# Altium schematic symbol library Transformer.SchLib: 13 symbols
Pins are listed as number, name and electrical type; pins without a type are passive.

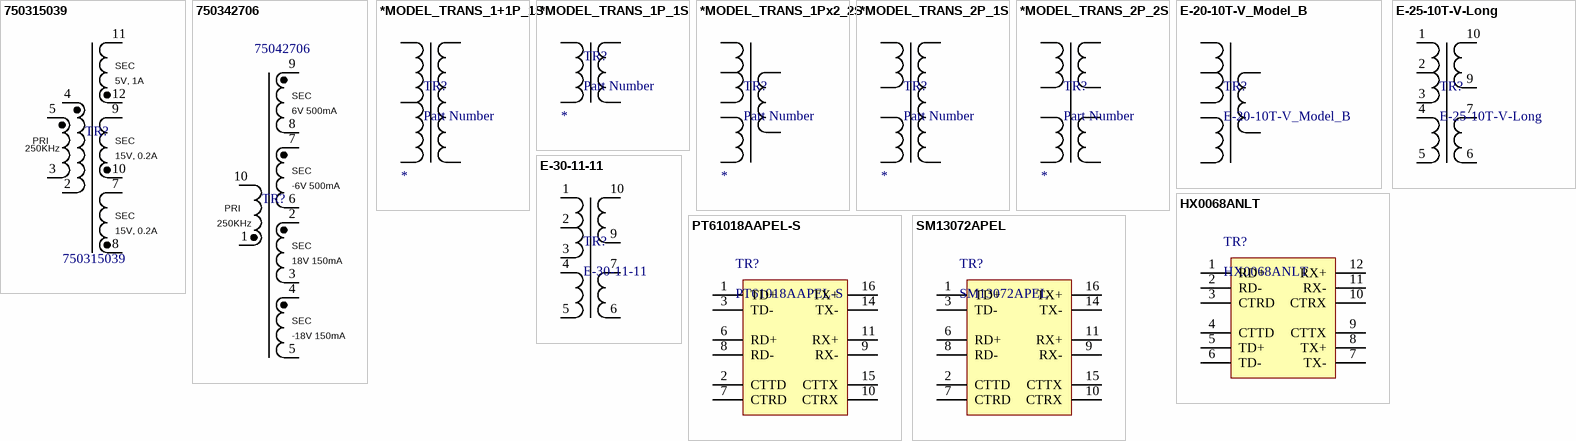
[diagram p0: symbols 750315039 to SM13072APEL]

## 750315039
designator TR?
XFRMR ISOL BUCK DC/DC CONV TH; Manufacturer: Wurth Electronics Midcom; Current: 1A; 0.2A; 0.2A; Mount Type: SMD; Supplier 1: Digi-Key; Supplier Part Number 1: 1297-1167-1-ND; Value: 750315039
footprint WURTH 750315039
pins: 2, 3, 4, 5, 7, 8, 9, 10, 11, 12
text: SEC; 5V, 1A; PRI; 250KHz; 15V, 0.2A

## 750342706
designator TR?  value 75042706  (hidden comment: 750342706)
XFRMR ISOL BUCK DC/DC CONV TH; Manufacturer: Wurth Electronics Midcom; Current: 150mA;150mA;500mA;500mA; Mount Type: SMD; Supplier 1: Xworks solutions; Supplier Part Number 1: 75042706; Supplier Unit Price 1: 5.98
footprint WURTH 750342706
pins: 1, 2, 3, 4, 5, 6, 7, 8, 9, 10
text: SEC; 6V 500mA; -6V 500mA; PRI; 250KHz; 18V 150mA; -18V 150mA

## *MODEL_TRANS_1+1P_1S
designator TR?, comment Part Number
Description; Current: xxA; Manufacturer: *; Mount Type: *; Value: *
pins: 1, 2, 3, 4, 5

## *MODEL_TRANS_1P_1S
designator TR?, comment Part Number
Description; Current: xxA; Manufacturer: *; Mount Type: *; Value: *
pins: 1, 2, 3, 4

## *MODEL_TRANS_1Px2_2S
designator TR?, comment Part Number
Description; Current: xxA; Manufacturer: *; Mount Type: *; Value: *
pins: 1, 2, 3, 4, 5, 6, 7

## *MODEL_TRANS_2P_1S
designator TR?, comment Part Number
Description; Current: xxA; Manufacturer: *; Mount Type: *; Value: *
pins: 1, 2, 3, 4, 5, 6

## *MODEL_TRANS_2P_2S
designator TR?, comment Part Number
Description; Current: xxA; Manufacturer: *; Mount Type: *; Value: *
pins: 1, 2, 3, 4, 5, 6, 7, 8

## E-20-10T-V_Model_B
designator TR?
TRANS_5.1V_2.1A_FSQ0365; Manufacturer: *; Mount Type: PTH
pins: 1, 2, 3, 4, 5, 6, 7

## E-25-10T-V-Long
designator TR?
TRANS_5.1V_2.1A_12V_250mA_FSQ0365; Inductance Primary: 964uH; Voltage Secundary 1: 5,1V; Voltage Secundary 2: 12V; Current Secondary 1: 2,1A; Current Secondary 2: 0,25A; Manufacturer: *; Mount Type: PTH; Quantity Pins: 10
footprint E-25-10T-V-Long
pins: 1, 2, 3, 4, 5, 6, 7, 9, 10

## E-30-11-11
designator TR?
TRANS_5.1V_2.1A_12V_250mA_FSQ0365; Inductance Primary: 964uH; Voltage Secundary 1: 5,1V; Voltage Secundary 2: 12V; Current Secondary 1: 2,1A; Current Secondary 2: 0,25A; Manufacturer: *; Mount Type: PTH; Quantity Pins: 10
footprint E-30-11-11
pins: 1, 2, 3, 4, 5, 6, 7, 9, 10

## HX0068ANLT
designator TR?
MODULE 1:1 100D SIN SMD; Manufacturer: Pulse Electronics Network; Value: LAN 10/100 Base-T; Mount Type: SMD; Supplier 1: Digi-Key; Supplier Part Number 1: 553-2066-1-ND; Supplier 2: Arrow; Supplier Part Number 2: ur33OIQ-xphno4v5aIvErsfLp2PWBfkLeTBHqjZoWCU; Supplier 3: Avnet; Supplier Part Number 3: HX0068ANLT
footprint LAN 10/100 TRAFO LOW PROFILE
pins: 1 RD+, 2 RD-, 3 CTRD, 4 CTTD, 5 TD+, 6 TD-, 7 TX-, 8 TX+, 9 CTTX, 10 CTRX, 11 RX-, 12 RX+

## PT61018AAPEL-S
designator TR?
PULSE XFMR 1CT:1CT 350UH SMD; Manufacturer: Bourns Inc.; Value: LAN 10/100 Base-T; Mount Type: SMD; Supplier 1: Newark; Supplier Part Number 1: 14AC4885; Supplier 2: Arrow; Supplier Part Number 2: tcXMXRLiuboHc4_Zr3oclBiNo-pBpldZYcswC1_xAEc; Supplier 3: Farnell; Supplier Part Number 3: 2725294; Supplier 4: Digi-Key; Supplier Part Number 4: PT61018AAPEL-SCT-ND
footprint LAN 10/100 TRAFO
pins: 1 TD+, 2 CTTD, 3 TD-, 6 RD+, 7 CTRD, 8 RD-, 9 RX-, 10 CTRX, 11 RX+, 14 TX-, 15 CTTX, 16 TX+

## SM13072APEL
designator TR?
LAN 10/100 BASE T XFORMER AECQ +; Manufacturer: Bourns Inc.; Value: LAN 10/100 Base-T; Mount Type: SMD; Supplier 1: Arrow; Supplier Part Number 1: aJ5ByPzhLZVlss7qmoVj73Qdz-nKuQsmvR9TyaFVA1Q; Supplier 2: Farnell; Supplier Part Number 2: 2673883; Supplier 3: Digi-Key; Supplier Part Number 3: SM13072APELCT-ND; Supplier 4: Newark; Supplier Part Number 4: 03AC3551; Supplier 5: Allied; Supplier Part Number 5: 70956202
footprint LAN 10/100 TRAFO
pins: 1 TD+, 2 CTTD, 3 TD-, 6 RD+, 7 CTRD, 8 RD-, 9 RX-, 10 CTRX, 11 RX+, 14 TX-, 15 CTTX, 16 TX+